# Altium schematic symbol library Schlib1_Nmos.SchLib: 2 symbols
Pins are listed as number, name and electrical type; pins without a type are passive.

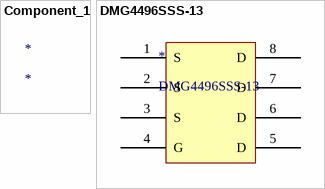
[diagram p0: symbols Component_1 to DMG4496SSS-13]

## Component_1
designator *

## DMG4496SSS-13
designator *
MOSFET MOSFET N-CHANNEL; Manufacturer: Diodes; Rise Time: 3.64ns; Continuous Drain Current (ID): 10A; Fall Time: 4.9ns; Gate to Source Voltage (Vgs): 25V; Turn-Off Delay Time: 19.5ns; Turn-On Delay Time: 4.76ns; Rds On Max: 21.5mR; Input Capacitance: 493.5pF; Drain to Source Voltage (Vdss): 30V; Max Power Dissipation: 1.42W; Drain to Source Resistance: 16mR; Number of Elements: 1; Element Configuration: Single; Supplier 1: Digi-Key; Manufacturer Part Number: DMG4496SSS-13; Stock 1: 6839; Pricing 1: 1=0.53, 10=0.416, 100=0.2855, 500=0.19578, 1000=0.14684 (USD); Mount: Surface Mount; Case/Package: SOIC; Number of Pins: 8; Weight: 0.00261oz; Min Operating Temperature: -55°C; Max Operating Temperature: 150°C; Packaging: Tape and Reel; Package Quantity: 2500; Drain to Source Breakdown Voltage: 30V; Power Dissipation: 1.42W; Number of Channels: 1; Length: 4.95mm; Height: 1.5mm; Width: 3.95mm; Radiation Hardening: No; REACH SVHC: No SVHC; ComponentLink1URL: http://www.diodes.com//datasheets/ds32048.pdf; ComponentLink1Description: http://www.diodes.com//datasheets/ds32048.pdf; ComponentLink2URL: http://www.diodes.com///////////////datasheets/ds32048.pdf; ComponentLink2Description: http://www.diodes.com///////////////datasheets/ds32048.pdf; ComponentLink3URL: https://www.diodes.com/assets/Datasheets/ds32048.pdf; ComponentLink3Description: https://www.diodes.com/assets/Datasheets/ds32048.pdf; ComponentLink4URL: http://www.mouser.com/ds/2/115/ds32048-88618.pdf; ComponentLink4Description: http://www.mouser.com/ds/2/115/ds32048-88618.pdf; Supplier Part Number 1: DMG4496SSS-13DIDKR-ND
footprint SOIC-8 (SOIC, 8-Leads, Body 4.90x3.90mm, Pitch 1.27mm, IPC Medium Density)
pins: 1 S, 2 S, 3 S, 4 G, 5 D, 6 D, 7 D, 8 D